# Altium footprint library Switch_CTS_218-6LPST_eec_0.PcbLib: 1 footprints
Each footprint in its own frame and in the unit in brackets; x right, y up, seen from the top. Pads: shape width x height; smd on the part's side, far side on the other; paste and mask are expansions set on the pad; w line width, h text height; cw(c..) or ccw(c..) is an arc to the next point about the centre after c.
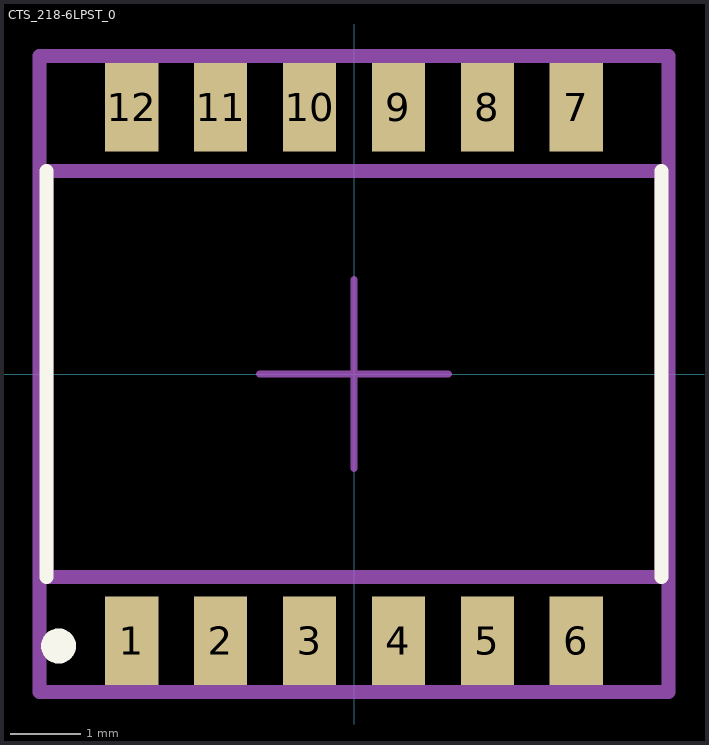
[diagram p0: the footprint, top view; thin cyan lines are the x and y axes]

## CTS_218-6LPST_0 [mm]
pads (12):
  rect 0.76x1.27 smd paste+0 mask+0: 1(-3.175,-3.81) 2(-1.905,-3.81) 3(-0.635,-3.81) 4(0.635,-3.81) 5(1.905,-3.81) 6(3.175,-3.81) 7(3.175,3.81) 8(1.905,3.81) 9(0.635,3.81) 10(-0.635,3.81) 11(-1.905,3.81) 12(-3.175,3.81)
Top Overlay:
  circle w0.25: c-4.22,-3.885 r0.125
  lines w0.2: -4.395,-2.9 -4.395,2.9 ; 4.395,-2.9 4.395,2.9
Mechanical 10:
  lines w0.2: -4.495,-4.545 4.495,-4.545 4.495,4.545 -4.495,4.545 -4.495,-4.545
  text ".Designator" at 0,0.188 h1
Mechanical 12:
  lines w0.2: -4.395,-2.9 4.395,-2.9 4.395,2.9 -4.395,2.9 -4.395,-2.9
Mechanical 15:
  lines w0.1: -1.349,0 1.349,0 ; 0,-1.349 0,1.349
  lines w0.2: -4.495,-4.545 4.495,-4.545 4.495,4.545 -4.495,4.545 -4.495,-4.545
3D body "Switch_CTS_218-6LPST_eec.STEP": height 0.25, standoff 0, extent -4.495,-4.545 4.495,4.545